# EAGLE library part AK130/19 (library PTR_AK130)
ANSCHLUSSKLEMME AK130 (19POLIG)
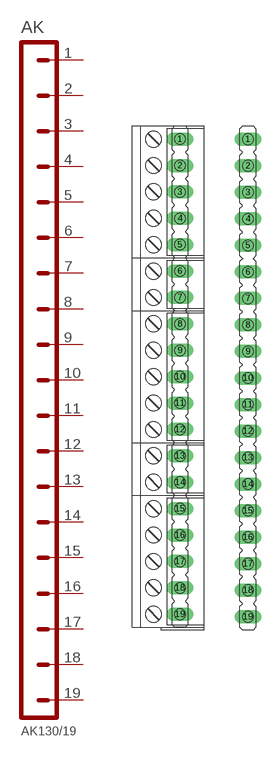
[diagram p13: symbol with the pads of AK19; footprints AK19, STL19]

Designator prefix AK

## AK130/19  [AK19]
1  P$1
2  P$2
3  P$3
4  P$4
5  P$5
6  P$6
7  P$7
8  P$8
9  P$9
10  P$10
11  P$11
12  P$12
13  P$13
14  P$14
15  P$15
16  P$16
17  P$17
18  P$18
19  P$19

## AK130/19_STL  [STL19]
Pads as for AK19

## Footprint AK19 (pad centres in mm)
AK130 (19POLIG) 2x AK130/2-5.0-GRAU 3x AK130/5-5.0-GRAU STL130/24-5.0-V-SCHWARZ
drill 1.5 pad 2.54 long: 1 0,45; 2 0,40; 3 0,35; 4 0,30; 5 0,25; 6 0,20; 7 0,15; 8 0,10; 9 0,5; 10 0,0; 11 0,-5; 12 0,-10; 13 0,-15; 14 0,-20; 15 0,-25; 16 0,-30; 17 0,-35; 18 0,-40; 19 0,-45

## Footprint STL19 (pad centres in mm)
STL130 (19POLIG) STL130/24-5.0-V-SCHWARZ
drill 1.5 pad 2.54 long: 1 0,45; 2 0,40; 3 0,35; 4 0,30; 5 0,25; 6 0,20; 7 0,15; 8 0,10; 9 0,5; 10 0,0; 11 0,-5; 12 0,-10; 13 0,-15; 14 0,-20; 15 0,-25; 16 0,-30; 17 0,-35; 18 0,-40; 19 0,-45